# Altium schematic symbol library ITS4142.SchLib: 1 symbol
Pins are listed as number, name and electrical type; pins without a type are passive.

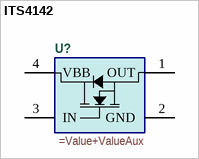
[diagram p0: symbol ITS4142]

## ITS4142
designator U?
=Description
pins: 1 OUT, 2 GND, 3 IN, 4 VBB